# Altium integrated library Altium_WE-PD.intlib: 278 symbols (part 3 of 3)
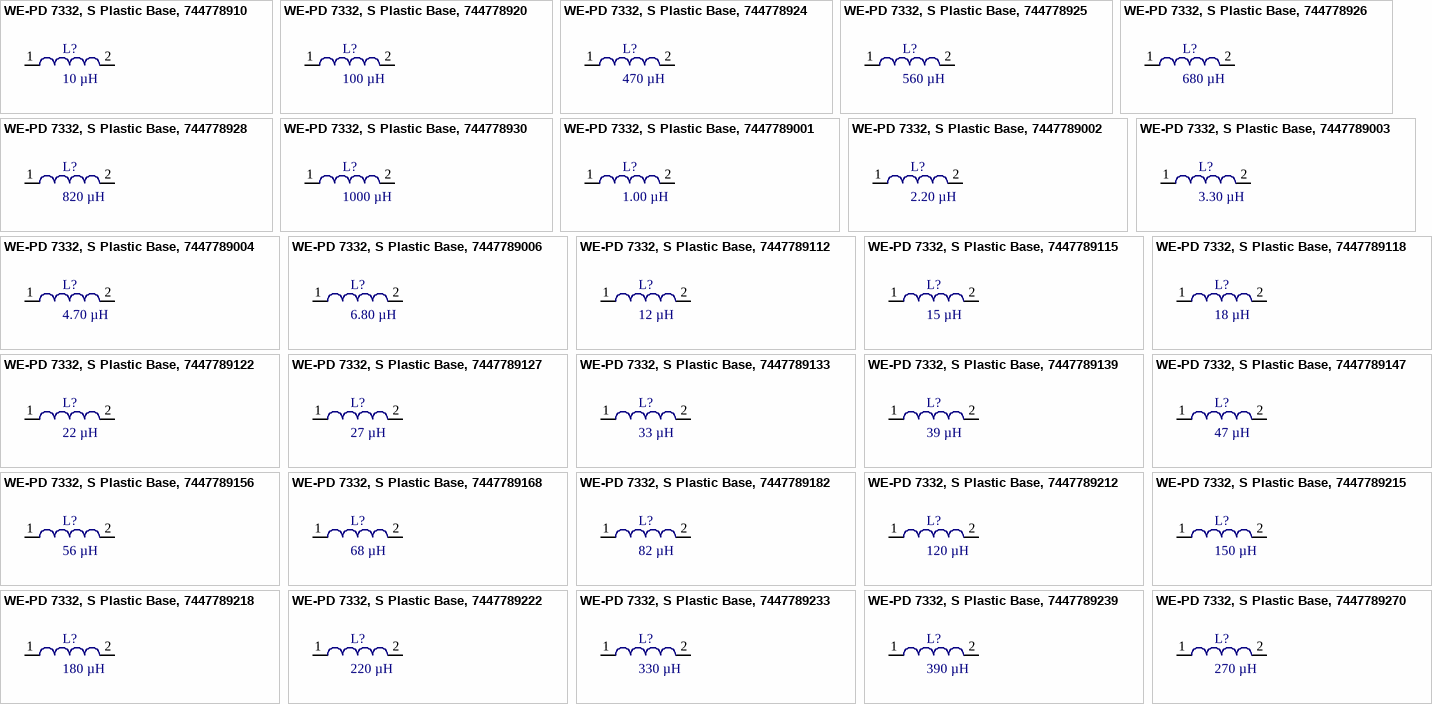
[diagram p13: symbols WE-PD 7332, S Plastic Base, 744778910 to WE-PD 7332, S Plastic Base, 7447789270]

## WE-PD 7332, S Plastic Base, 7447789270
designator L?, comment 270 µH  (mechanical)
SMD-Shielded Power Inductor WE-PD, L=270 µH; partNo: 7447789270; Manufacturer: Würth Elektronik eiSos GmbH; Inductance: 270 µH; ComponentLink1Description: Manufacturer; ComponentLink1URL: http://www.we-online.de; Created by: Christin Zierenner; Created Date: August 2009; ComponentLink2Description: Datasheet; ComponentLink2URL: http://www.we-online.de/katalog/media/pdf/7447789270.pdf
footprint WE-PD 7332 Plastic Base (SMD Inductor, 2-Leads, Body 7,3x7,3mm)
pins: 1, 2


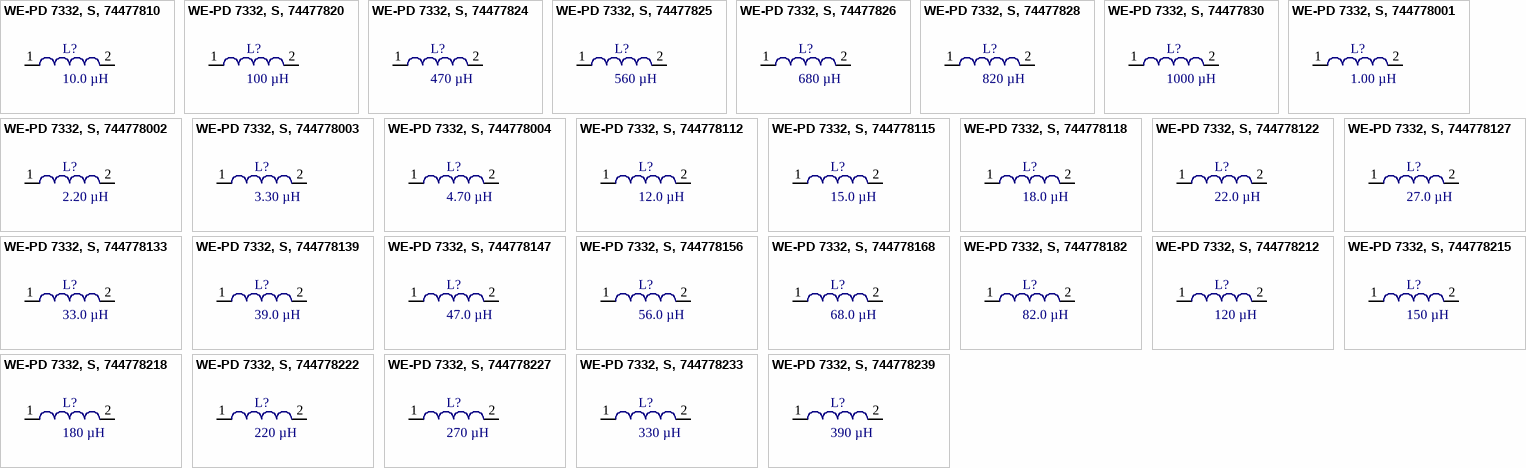
[diagram p9: symbols WE-PD 7332, S, 74477810 to WE-PD 7332, S, 744778239]

## WE-PD 7332, S, 74477810
designator L?, comment 10.0 µH
SMD-Shielded Power Inductor WE-PD, L=10.0 µH; partNo: 74477810; Manufacturer: Würth Elektronik eiSos GmbH; Inductance: 10.0 µH; ComponentLink1Description: Manufacturer; ComponentLink1URL: http://www.we-online.de; Created by: Christin Zierenner; Created Date: July 2009; ComponentLink2Description: Datasheet; ComponentLink2URL: http://www.we-online.de/katalog/media/pdf/74477810.pdf
footprint WE-PD 7332 (SMD Inductor, 2-Leads, Body 7,3x7,3mm)
pins: 1, 2

## WE-PD 7332, S, 74477820
designator L?, comment 100 µH
SMD-Shielded Power Inductor WE-PD, L=100 µH; partNo: 74477820; Manufacturer: Würth Elektronik eiSos GmbH; Inductance: 100 µH; ComponentLink1Description: Manufacturer; ComponentLink1URL: http://www.we-online.de; Created by: Christin Zierenner; Created Date: July 2009; ComponentLink2Description: Datasheet; ComponentLink2URL: http://www.we-online.de/katalog/media/pdf/74477820.pdf
footprint WE-PD 7332 (SMD Inductor, 2-Leads, Body 7,3x7,3mm)
pins: 1, 2

## WE-PD 7332, S, 74477824
designator L?, comment 470 µH
SMD-Shielded Power Inductor WE-PD, L=470 µH; partNo: 74477824; Manufacturer: Würth Elektronik eiSos GmbH; Inductance: 470 µH; ComponentLink1Description: Manufacturer; ComponentLink1URL: http://www.we-online.de; Created by: Christin Zierenner; Created Date: July 2009; ComponentLink2Description: Datasheet; ComponentLink2URL: http://www.we-online.de/katalog/media/pdf/74477824.pdf
footprint WE-PD 7332 (SMD Inductor, 2-Leads, Body 7,3x7,3mm)
pins: 1, 2

## WE-PD 7332, S, 74477825
designator L?, comment 560 µH
SMD-Shielded Power Inductor WE-PD, L=560 µH; partNo: 74477825; Manufacturer: Würth Elektronik eiSos GmbH; Inductance: 560 µH; ComponentLink1Description: Manufacturer; ComponentLink1URL: http://www.we-online.de; Created by: Christin Zierenner; Created Date: July 2009; ComponentLink2Description: Datasheet; ComponentLink2URL: http://www.we-online.de/katalog/media/pdf/74477825.pdf
footprint WE-PD 7332 (SMD Inductor, 2-Leads, Body 7,3x7,3mm)
pins: 1, 2

## WE-PD 7332, S, 74477826
designator L?, comment 680 µH
SMD-Shielded Power Inductor WE-PD, L=680 µH; partNo: 74477826; Manufacturer: Würth Elektronik eiSos GmbH; Inductance: 680 µH; ComponentLink1Description: Manufacturer; ComponentLink1URL: http://www.we-online.de; Created by: Christin Zierenner; Created Date: July 2009; ComponentLink2Description: Datasheet; ComponentLink2URL: http://www.we-online.de/katalog/media/pdf/74477826.pdf
footprint WE-PD 7332 (SMD Inductor, 2-Leads, Body 7,3x7,3mm)
pins: 1, 2

## WE-PD 7332, S, 74477828
designator L?, comment 820 µH
SMD-Shielded Power Inductor WE-PD, L=820 µH; partNo: 74477828; Manufacturer: Würth Elektronik eiSos GmbH; Inductance: 820 µH; ComponentLink1Description: Manufacturer; ComponentLink1URL: http://www.we-online.de; Created by: Christin Zierenner; Created Date: July 2009; ComponentLink2Description: Datasheet; ComponentLink2URL: http://www.we-online.de/katalog/media/pdf/74477828.pdf
footprint WE-PD 7332 (SMD Inductor, 2-Leads, Body 7,3x7,3mm)
pins: 1, 2

## WE-PD 7332, S, 74477830
designator L?, comment 1000 µH
SMD-Shielded Power Inductor WE-PD, L=1000 µH; partNo: 74477830; Manufacturer: Würth Elektronik eiSos GmbH; Inductance: 1000 µH; ComponentLink1Description: Manufacturer; ComponentLink1URL: http://www.we-online.de; Created by: Christin Zierenner; Created Date: July 2009; ComponentLink2Description: Datasheet; ComponentLink2URL: http://www.we-online.de/katalog/media/pdf/74477830.pdf
footprint WE-PD 7332 (SMD Inductor, 2-Leads, Body 7,3x7,3mm)
pins: 1, 2

## WE-PD 7332, S, 744778001
designator L?, comment 1.00 µH
SMD-Shielded Power Inductor WE-PD, L=1.00 µH; partNo: 744778001; Manufacturer: Würth Elektronik eiSos GmbH; Inductance: 1.00 µH; ComponentLink1Description: Manufacturer; ComponentLink1URL: http://www.we-online.de; Created by: Christin Zierenner; Created Date: July 2009; ComponentLink2Description: Datasheet; ComponentLink2URL: http://www.we-online.de/katalog/media/pdf/744778001.pdf
footprint WE-PD 7332 (SMD Inductor, 2-Leads, Body 7,3x7,3mm)
pins: 1, 2

## WE-PD 7332, S, 744778002
designator L?, comment 2.20 µH
SMD-Shielded Power Inductor WE-PD, L=2.20 µH; partNo: 744778002; Manufacturer: Würth Elektronik eiSos GmbH; Inductance: 2.20 µH; ComponentLink1Description: Manufacturer; ComponentLink1URL: http://www.we-online.de; Created by: Christin Zierenner; Created Date: July 2009; ComponentLink2Description: Datasheet; ComponentLink2URL: http://www.we-online.de/katalog/media/pdf/744778002pdf
footprint WE-PD 7332 (SMD Inductor, 2-Leads, Body 7,3x7,3mm)
pins: 1, 2

## WE-PD 7332, S, 744778003
designator L?, comment 3.30 µH
SMD-Shielded Power Inductor WE-PD, L=3.30 µH; partNo: 744778003; Manufacturer: Würth Elektronik eiSos GmbH; Inductance: 3.30 µH; ComponentLink1Description: Manufacturer; ComponentLink1URL: http://www.we-online.de; Created by: Christin Zierenner; Created Date: July 2009; ComponentLink2Description: Datasheet; ComponentLink2URL: http://www.we-online.de/katalog/media/pdf/744778003.pdf
footprint WE-PD 7332 (SMD Inductor, 2-Leads, Body 7,3x7,3mm)
pins: 1, 2

## WE-PD 7332, S, 744778004
designator L?, comment 4.70 µH
SMD-Shielded Power Inductor WE-PD, L=4.70 µH; partNo: 744778004; Manufacturer: Würth Elektronik eiSos GmbH; Inductance: 4.70 µH; ComponentLink1Description: Manufacturer; ComponentLink1URL: http://www.we-online.de; Created by: Christin Zierenner; Created Date: July 2009; ComponentLink2Description: Datasheet; ComponentLink2URL: http://www.we-online.de/katalog/media/pdf/744778004.pdf
footprint WE-PD 7332 (SMD Inductor, 2-Leads, Body 7,3x7,3mm)
pins: 1, 2

## WE-PD 7332, S, 744778112
designator L?, comment 12.0 µH
SMD-Shielded Power Inductor WE-PD, L=12.0 µH; partNo: 744778112; Manufacturer: Würth Elektronik eiSos GmbH; Inductance: 12.0 µH; ComponentLink1Description: Manufacturer; ComponentLink1URL: http://www.we-online.de; Created by: Christin Zierenner; Created Date: July 2009; ComponentLink2Description: Datasheet; ComponentLink2URL: http://www.we-online.de/katalog/media/pdf/744778112.pdf
footprint WE-PD 7332 (SMD Inductor, 2-Leads, Body 7,3x7,3mm)
pins: 1, 2

## WE-PD 7332, S, 744778115
designator L?, comment 15.0 µH
SMD-Shielded Power Inductor WE-PD, L=15.0 µH; partNo: 744778115; Manufacturer: Würth Elektronik eiSos GmbH; Inductance: 15.0 µH; ComponentLink1Description: Manufacturer; ComponentLink1URL: http://www.we-online.de; Created by: Christin Zierenner; Created Date: July 2009; ComponentLink2Description: Datasheet; ComponentLink2URL: http://www.we-online.de/katalog/media/pdf/744778115.pdf
footprint WE-PD 7332 (SMD Inductor, 2-Leads, Body 7,3x7,3mm)
pins: 1, 2

## WE-PD 7332, S, 744778118
designator L?, comment 18.0 µH
SMD-Shielded Power Inductor WE-PD, L=18.0 µH; partNo: 744778118; Manufacturer: Würth Elektronik eiSos GmbH; Inductance: 18.0 µH; ComponentLink1Description: Manufacturer; ComponentLink1URL: http://www.we-online.de; Created by: Christin Zierenner; Created Date: July 2009; ComponentLink2Description: Datasheet; ComponentLink2URL: http://www.we-online.de/katalog/media/pdf/744778118.pdf
footprint WE-PD 7332 (SMD Inductor, 2-Leads, Body 7,3x7,3mm)
pins: 1, 2

## WE-PD 7332, S, 744778122
designator L?, comment 22.0 µH
SMD-Shielded Power Inductor WE-PD, L=22.0 µH; partNo: 744778122; Manufacturer: Würth Elektronik eiSos GmbH; Inductance: 22.0 µH; ComponentLink1Description: Manufacturer; ComponentLink1URL: http://www.we-online.de; Created by: Christin Zierenner; Created Date: July 2009; ComponentLink2Description: Datasheet; ComponentLink2URL: http://www.we-online.de/katalog/media/pdf/744778122.pdf
footprint WE-PD 7332 (SMD Inductor, 2-Leads, Body 7,3x7,3mm)
pins: 1, 2

## WE-PD 7332, S, 744778127
designator L?, comment 27.0 µH
SMD-Shielded Power Inductor WE-PD, L=27.0 µH; partNo: 744778127; Manufacturer: Würth Elektronik eiSos GmbH; Inductance: 27.0 µH; ComponentLink1Description: Manufacturer; ComponentLink1URL: http://www.we-online.de; Created by: Christin Zierenner; Created Date: July 2009; ComponentLink2Description: Datasheet; ComponentLink2URL: http://www.we-online.de/katalog/media/pdf/744778127.pdf
footprint WE-PD 7332 (SMD Inductor, 2-Leads, Body 7,3x7,3mm)
pins: 1, 2

## WE-PD 7332, S, 744778133
designator L?, comment 33.0 µH
SMD-Shielded Power Inductor WE-PD, L=33.0 µH; partNo: 744778133; Manufacturer: Würth Elektronik eiSos GmbH; Inductance: 33.0 µH; ComponentLink1Description: Manufacturer; ComponentLink1URL: http://www.we-online.de; Created by: Christin Zierenner; Created Date: July 2009; ComponentLink2Description: Datasheet; ComponentLink2URL: http://www.we-online.de/katalog/media/pdf/744778133.pdf
footprint WE-PD 7332 (SMD Inductor, 2-Leads, Body 7,3x7,3mm)
pins: 1, 2

## WE-PD 7332, S, 744778139
designator L?, comment 39.0 µH
SMD-Shielded Power Inductor WE-PD, L=39.0 µH; partNo: 744778139; Manufacturer: Würth Elektronik eiSos GmbH; Inductance: 39.0 µH; ComponentLink1Description: Manufacturer; ComponentLink1URL: http://www.we-online.de; Created by: Christin Zierenner; Created Date: July 2009; ComponentLink2Description: Datasheet; ComponentLink2URL: http://www.we-online.de/katalog/media/pdf/744778139.pdf
footprint WE-PD 7332 (SMD Inductor, 2-Leads, Body 7,3x7,3mm)
pins: 1, 2

## WE-PD 7332, S, 744778147
designator L?, comment 47.0 µH
SMD-Shielded Power Inductor WE-PD, L=47.0 µH; partNo: 744778147; Manufacturer: Würth Elektronik eiSos GmbH; Inductance: 47.0 µH; ComponentLink1Description: Manufacturer; ComponentLink1URL: http://www.we-online.de; Created by: Christin Zierenner; Created Date: July 2009; ComponentLink2Description: Datasheet; ComponentLink2URL: http://www.we-online.de/katalog/media/pdf/744778147.pdf
footprint WE-PD 7332 (SMD Inductor, 2-Leads, Body 7,3x7,3mm)
pins: 1, 2

## WE-PD 7332, S, 744778156
designator L?, comment 56.0 µH
SMD-Shielded Power Inductor WE-PD, L=56.0 µH; partNo: 744778156; Manufacturer: Würth Elektronik eiSos GmbH; Inductance: 56.0 µH; ComponentLink1Description: Manufacturer; ComponentLink1URL: http://www.we-online.de; Created by: Christin Zierenner; Created Date: July 2009; ComponentLink2Description: Datasheet; ComponentLink2URL: http://www.we-online.de/katalog/media/pdf/744778156.pdf
footprint WE-PD 7332 (SMD Inductor, 2-Leads, Body 7,3x7,3mm)
pins: 1, 2

## WE-PD 7332, S, 744778168
designator L?, comment 68.0 µH
SMD-Shielded Power Inductor WE-PD, L=68.0 µH; partNo: 744778168; Manufacturer: Würth Elektronik eiSos GmbH; Inductance: 68.0 µH; ComponentLink1Description: Manufacturer; ComponentLink1URL: http://www.we-online.de; Created by: Christin Zierenner; Created Date: July 2009; ComponentLink2Description: Datasheet; ComponentLink2URL: http://www.we-online.de/katalog/media/pdf/744778168.pdf
footprint WE-PD 7332 (SMD Inductor, 2-Leads, Body 7,3x7,3mm)
pins: 1, 2

## WE-PD 7332, S, 744778182
designator L?, comment 82.0 µH
SMD-Shielded Power Inductor WE-PD, L=82.0 µH; partNo: 744778182; Manufacturer: Würth Elektronik eiSos GmbH; Inductance: 82.0 µH; ComponentLink1Description: Manufacturer; ComponentLink1URL: http://www.we-online.de; Created by: Christin Zierenner; Created Date: July 2009; ComponentLink2Description: Datasheet; ComponentLink2URL: http://www.we-online.de/katalog/media/pdf/744778182.pdf
footprint WE-PD 7332 (SMD Inductor, 2-Leads, Body 7,3x7,3mm)
pins: 1, 2

## WE-PD 7332, S, 744778212
designator L?, comment 120 µH
SMD-Shielded Power Inductor WE-PD, L=120 µH; partNo: 744778212; Manufacturer: Würth Elektronik eiSos GmbH; Inductance: 120 µH; ComponentLink1Description: Manufacturer; ComponentLink1URL: http://www.we-online.de; Created by: Christin Zierenner; Created Date: July 2009; ComponentLink2Description: Datasheet; ComponentLink2URL: http://www.we-online.de/katalog/media/pdf/744778212.pdf
footprint WE-PD 7332 (SMD Inductor, 2-Leads, Body 7,3x7,3mm)
pins: 1, 2

## WE-PD 7332, S, 744778215
designator L?, comment 150 µH
SMD-Shielded Power Inductor WE-PD, L=150 µH; partNo: 744778215; Manufacturer: Würth Elektronik eiSos GmbH; Inductance: 150 µH; ComponentLink1Description: Manufacturer; ComponentLink1URL: http://www.we-online.de; Created by: Christin Zierenner; Created Date: July 2009; ComponentLink2Description: Datasheet; ComponentLink2URL: http://www.we-online.de/katalog/media/pdf/744778215.pdf
footprint WE-PD 7332 (SMD Inductor, 2-Leads, Body 7,3x7,3mm)
pins: 1, 2

## WE-PD 7332, S, 744778218
designator L?, comment 180 µH
SMD-Shielded Power Inductor WE-PD, L=180 µH; partNo: 744778218; Manufacturer: Würth Elektronik eiSos GmbH; Inductance: 180 µH; ComponentLink1Description: Manufacturer; ComponentLink1URL: http://www.we-online.de; Created by: Christin Zierenner; Created Date: July 2009; ComponentLink2Description: Datasheet; ComponentLink2URL: http://www.we-online.de/katalog/media/pdf/744778218.pdf
footprint WE-PD 7332 (SMD Inductor, 2-Leads, Body 7,3x7,3mm)
pins: 1, 2

## WE-PD 7332, S, 744778222
designator L?, comment 220 µH
SMD-Shielded Power Inductor WE-PD, L=220 µH; partNo: 744778222; Manufacturer: Würth Elektronik eiSos GmbH; Inductance: 220 µH; ComponentLink1Description: Manufacturer; ComponentLink1URL: http://www.we-online.de; Created by: Christin Zierenner; Created Date: July 2009; ComponentLink2Description: Datasheet; ComponentLink2URL: http://www.we-online.de/katalog/media/pdf/744778222.pdf
footprint WE-PD 7332 (SMD Inductor, 2-Leads, Body 7,3x7,3mm)
pins: 1, 2

## WE-PD 7332, S, 744778227
designator L?, comment 270 µH
SMD-Shielded Power Inductor WE-PD, L=270 µH; partNo: 744778227; Manufacturer: Würth Elektronik eiSos GmbH; Inductance: 270 µH; ComponentLink1Description: Manufacturer; ComponentLink1URL: http://www.we-online.de; Created by: Christin Zierenner; Created Date: July 2009; ComponentLink2Description: Datasheet; ComponentLink2URL: http://www.we-online.de/katalog/media/pdf/744778227.pdf
footprint WE-PD 7332 (SMD Inductor, 2-Leads, Body 7,3x7,3mm)
pins: 1, 2

## WE-PD 7332, S, 744778233
designator L?, comment 330 µH
SMD-Shielded Power Inductor WE-PD, L=330 µH; partNo: 744778233; Manufacturer: Würth Elektronik eiSos GmbH; Inductance: 330 µH; ComponentLink1Description: Manufacturer; ComponentLink1URL: http://www.we-online.de; Created by: Christin Zierenner; Created Date: July 2009; ComponentLink2Description: Datasheet; ComponentLink2URL: http://www.we-online.de/katalog/media/pdf/744778233.pdf
footprint WE-PD 7332 (SMD Inductor, 2-Leads, Body 7,3x7,3mm)
pins: 1, 2

## WE-PD 7332, S, 744778239
designator L?, comment 390 µH
SMD-Shielded Power Inductor WE-PD, L=390 µH; partNo: 744778239; Manufacturer: Würth Elektronik eiSos GmbH; Inductance: 390 µH; ComponentLink1Description: Manufacturer; ComponentLink1URL: http://www.we-online.de; Created by: Christin Zierenner; Created Date: July 2009; ComponentLink2Description: Datasheet; ComponentLink2URL: http://www.we-online.de/katalog/media/pdf/744778239.pdf
footprint WE-PD 7332 (SMD Inductor, 2-Leads, Body 7,3x7,3mm)
pins: 1, 2


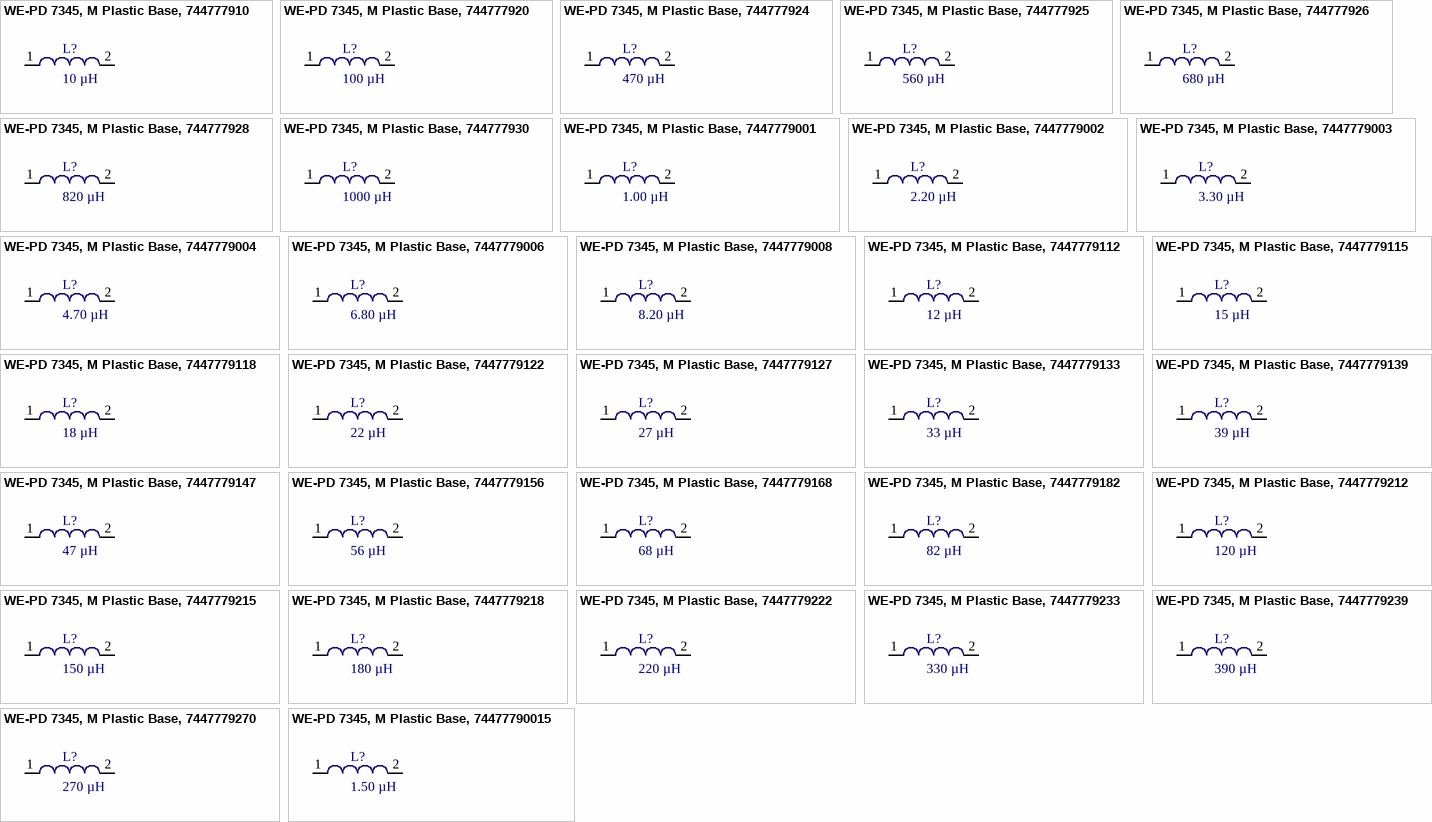
[diagram p10: symbols WE-PD 7345, M Plastic Base, 744777910 to WE-PD 7345, M Plastic Base, 74477790015]

## WE-PD 7345, M Plastic Base, 744777910
designator L?, comment 10 µH
SMD-Shielded Power Inductor WE-PD, L=10 µH; partNo: 744777910; Manufacturer: Würth Elektronik eiSos GmbH; Inductance: 10 µH; ComponentLink1Description: Manufacturer; ComponentLink1URL: http://www.we-online.de; Created by: Christin Zierenner; Created Date: August 2009; ComponentLink2Description: Datasheet; ComponentLink2URL: http://www.we-online.de/katalog/media/pdf/744777910.pdf
footprint WE-PD 7345 Plastic Base (SMD Inductor, 2-Leads, Body 7,3x7,3mm)
pins: 1, 2

## WE-PD 7345, M Plastic Base, 744777920
designator L?, comment 100 µH
SMD-Shielded Power Inductor WE-PD, L=100 µH; partNo: 744777920; Manufacturer: Würth Elektronik eiSos GmbH; Inductance: 100 µH; ComponentLink1Description: Manufacturer; ComponentLink1URL: http://www.we-online.de; Created by: Christin Zierenner; Created Date: August 2009; ComponentLink2Description: Datasheet; ComponentLink2URL: http://www.we-online.de/katalog/media/pdf/744777920.pdf
footprint WE-PD 7345 Plastic Base (SMD Inductor, 2-Leads, Body 7,3x7,3mm)
pins: 1, 2

## WE-PD 7345, M Plastic Base, 744777924
designator L?, comment 470 µH
SMD-Shielded Power Inductor WE-PD, L=470 µH; partNo: 744777924; Manufacturer: Würth Elektronik eiSos GmbH; Inductance: 470 µH; ComponentLink1Description: Manufacturer; ComponentLink1URL: http://www.we-online.de; Created by: Christin Zierenner; Created Date: August 2009; ComponentLink2Description: Datasheet; ComponentLink2URL: http://www.we-online.de/katalog/media/pdf/744777924.pdf
footprint WE-PD 7345 Plastic Base (SMD Inductor, 2-Leads, Body 7,3x7,3mm)
pins: 1, 2

## WE-PD 7345, M Plastic Base, 744777925
designator L?, comment 560 µH
SMD-Shielded Power Inductor WE-PD, L=560 µH; partNo: 744777925; Manufacturer: Würth Elektronik eiSos GmbH; Inductance: 560 µH; ComponentLink1Description: Manufacturer; ComponentLink1URL: http://www.we-online.de; Created by: Christin Zierenner; Created Date: August 2009; ComponentLink2Description: Datasheet; ComponentLink2URL: http://www.we-online.de/katalog/media/pdf/744777925.pdf
footprint WE-PD 7345 Plastic Base (SMD Inductor, 2-Leads, Body 7,3x7,3mm)
pins: 1, 2

## WE-PD 7345, M Plastic Base, 744777926
designator L?, comment 680 µH
SMD-Shielded Power Inductor WE-PD, L=680 µH; partNo: 744777926; Manufacturer: Würth Elektronik eiSos GmbH; Inductance: 680 µH; ComponentLink1Description: Manufacturer; ComponentLink1URL: http://www.we-online.de; Created by: Christin Zierenner; Created Date: August 2009; ComponentLink2Description: Datasheet; ComponentLink2URL: http://www.we-online.de/katalog/media/pdf/744777926.pdf
footprint WE-PD 7345 Plastic Base (SMD Inductor, 2-Leads, Body 7,3x7,3mm)
pins: 1, 2

## WE-PD 7345, M Plastic Base, 744777928
designator L?, comment 820 µH
SMD-Shielded Power Inductor WE-PD, L=820 µH; partNo: 744777928; Manufacturer: Würth Elektronik eiSos GmbH; Inductance: 820 µH; ComponentLink1Description: Manufacturer; ComponentLink1URL: http://www.we-online.de; Created by: Christin Zierenner; Created Date: August 2009; ComponentLink2Description: Datasheet; ComponentLink2URL: http://www.we-online.de/katalog/media/pdf/744777928.pdf
footprint WE-PD 7345 Plastic Base (SMD Inductor, 2-Leads, Body 7,3x7,3mm)
pins: 1, 2

## WE-PD 7345, M Plastic Base, 744777930
designator L?, comment 1000 µH
SMD-Shielded Power Inductor WE-PD, L=1000 µH; partNo: 744777930; Manufacturer: Würth Elektronik eiSos GmbH; Inductance: 1000 µH; ComponentLink1Description: Manufacturer; ComponentLink1URL: http://www.we-online.de; Created by: Christin Zierenner; Created Date: August 2009; ComponentLink2Description: Datasheet; ComponentLink2URL: http://www.we-online.de/katalog/media/pdf/744777930.pdf
footprint WE-PD 7345 Plastic Base (SMD Inductor, 2-Leads, Body 7,3x7,3mm)
pins: 1, 2

## WE-PD 7345, M Plastic Base, 7447779001
designator L?, comment 1.00 µH
SMD-Shielded Power Inductor WE-PD, L=1.00 µH; partNo: 7447779001; Manufacturer: Würth Elektronik eiSos GmbH; Inductance: 1.00 µH; ComponentLink1Description: Manufacturer; ComponentLink1URL: http://www.we-online.de; Created by: Christin Zierenner; Created Date: August 2009; ComponentLink2Description: Datasheet; ComponentLink2URL: http://www.we-online.de/katalog/media/pdf/7447779001.pdf
footprint WE-PD 7345 Plastic Base (SMD Inductor, 2-Leads, Body 7,3x7,3mm)
pins: 1, 2

## WE-PD 7345, M Plastic Base, 7447779002
designator L?, comment 2.20 µH
SMD-Shielded Power Inductor WE-PD, L=2.20 µH; partNo: 7447779002; Manufacturer: Würth Elektronik eiSos GmbH; Inductance: 2.20 µH; ComponentLink1Description: Manufacturer; ComponentLink1URL: http://www.we-online.de; Created by: Christin Zierenner; Created Date: August 2009; ComponentLink2Description: Datasheet; ComponentLink2URL: http://www.we-online.de/katalog/media/pdf/7447779002.pdf
footprint WE-PD 7345 Plastic Base (SMD Inductor, 2-Leads, Body 7,3x7,3mm)
pins: 1, 2

## WE-PD 7345, M Plastic Base, 7447779003
designator L?, comment 3.30 µH
SMD-Shielded Power Inductor WE-PD, L=3.30 µH; partNo: 7447779003; Manufacturer: Würth Elektronik eiSos GmbH; Inductance: 3.30 µH; ComponentLink1Description: Manufacturer; ComponentLink1URL: http://www.we-online.de; Created by: Christin Zierenner; Created Date: August 2009; ComponentLink2Description: Datasheet; ComponentLink2URL: http://www.we-online.de/katalog/media/pdf/7447779003.pdf
footprint WE-PD 7345 Plastic Base (SMD Inductor, 2-Leads, Body 7,3x7,3mm)
pins: 1, 2

## WE-PD 7345, M Plastic Base, 7447779004
designator L?, comment 4.70 µH
SMD-Shielded Power Inductor WE-PD, L=4.70 µH; partNo: 7447779004; Manufacturer: Würth Elektronik eiSos GmbH; Inductance: 4.70 µH; ComponentLink1Description: Manufacturer; ComponentLink1URL: http://www.we-online.de; Created by: Christin Zierenner; Created Date: August 2009; ComponentLink2Description: Datasheet; ComponentLink2URL: http://www.we-online.de/katalog/media/pdf/7447779004.pdf
footprint WE-PD 7345 Plastic Base (SMD Inductor, 2-Leads, Body 7,3x7,3mm)
pins: 1, 2

## WE-PD 7345, M Plastic Base, 7447779006
designator L?, comment 6.80 µH
SMD-Shielded Power Inductor WE-PD, L=6.80 µH; partNo: 7447779006; Manufacturer: Würth Elektronik eiSos GmbH; Inductance: 6.80 µH; ComponentLink1Description: Manufacturer; ComponentLink1URL: http://www.we-online.de; Created by: Christin Zierenner; Created Date: August 2009; ComponentLink2Description: Datasheet; ComponentLink2URL: http://www.we-online.de/katalog/media/pdf/7447779006.pdf
footprint WE-PD 7345 Plastic Base (SMD Inductor, 2-Leads, Body 7,3x7,3mm)
pins: 1, 2

## WE-PD 7345, M Plastic Base, 7447779008
designator L?, comment 8.20 µH
SMD-Shielded Power Inductor WE-PD, L=8.20 µH; partNo: 7447779008; Manufacturer: Würth Elektronik eiSos GmbH; Inductance: 8.20 µH; ComponentLink1Description: Manufacturer; ComponentLink1URL: http://www.we-online.de; Created by: Christin Zierenner; Created Date: August 2009; ComponentLink2Description: Datasheet; ComponentLink2URL: http://www.we-online.de/katalog/media/pdf/7447779008.pdf
footprint WE-PD 7345 Plastic Base (SMD Inductor, 2-Leads, Body 7,3x7,3mm)
pins: 1, 2

## WE-PD 7345, M Plastic Base, 7447779112
designator L?, comment 12 µH
SMD-Shielded Power Inductor WE-PD, L=12 µH; partNo: 7447779112; Manufacturer: Würth Elektronik eiSos GmbH; Inductance: 12 µH; ComponentLink1Description: Manufacturer; ComponentLink1URL: http://www.we-online.de; Created by: Christin Zierenner; Created Date: August 2009; ComponentLink2Description: Datasheet; ComponentLink2URL: http://www.we-online.de/katalog/media/pdf/7447779112.pdf
footprint WE-PD 7345 Plastic Base (SMD Inductor, 2-Leads, Body 7,3x7,3mm)
pins: 1, 2

## WE-PD 7345, M Plastic Base, 7447779115
designator L?, comment 15 µH
SMD-Shielded Power Inductor WE-PD, L=15 µH; partNo: 7447779115; Manufacturer: Würth Elektronik eiSos GmbH; Inductance: 15 µH; ComponentLink1Description: Manufacturer; ComponentLink1URL: http://www.we-online.de; Created by: Christin Zierenner; Created Date: August 2009; ComponentLink2Description: Datasheet; ComponentLink2URL: http://www.we-online.de/katalog/media/pdf/7447779115.pdf
footprint WE-PD 7345 Plastic Base (SMD Inductor, 2-Leads, Body 7,3x7,3mm)
pins: 1, 2

## WE-PD 7345, M Plastic Base, 7447779118
designator L?, comment 18 µH
SMD-Shielded Power Inductor WE-PD, L=18 µH; partNo: 7447779118; Manufacturer: Würth Elektronik eiSos GmbH; Inductance: 18 µH; ComponentLink1Description: Manufacturer; ComponentLink1URL: http://www.we-online.de; Created by: Christin Zierenner; Created Date: August 2009; ComponentLink2Description: Datasheet; ComponentLink2URL: http://www.we-online.de/katalog/media/pdf/7447779118.pdf
footprint WE-PD 7345 Plastic Base (SMD Inductor, 2-Leads, Body 7,3x7,3mm)
pins: 1, 2

## WE-PD 7345, M Plastic Base, 7447779122
designator L?, comment 22 µH
SMD-Shielded Power Inductor WE-PD, L=22 µH; partNo: 7447779122; Manufacturer: Würth Elektronik eiSos GmbH; Inductance: 22 µH; ComponentLink1Description: Manufacturer; ComponentLink1URL: http://www.we-online.de; Created by: Christin Zierenner; Created Date: August 2009; ComponentLink2Description: Datasheet; ComponentLink2URL: http://www.we-online.de/katalog/media/pdf/7447779122.pdf
footprint WE-PD 7345 Plastic Base (SMD Inductor, 2-Leads, Body 7,3x7,3mm)
pins: 1, 2

## WE-PD 7345, M Plastic Base, 7447779127
designator L?, comment 27 µH
SMD-Shielded Power Inductor WE-PD, L=27 µH; partNo: 7447779127; Manufacturer: Würth Elektronik eiSos GmbH; Inductance: 27 µH; ComponentLink1Description: Manufacturer; ComponentLink1URL: http://www.we-online.de; Created by: Christin Zierenner; Created Date: August 2009; ComponentLink2Description: Datasheet; ComponentLink2URL: http://www.we-online.de/katalog/media/pdf/7447779127.pdf
footprint WE-PD 7345 Plastic Base (SMD Inductor, 2-Leads, Body 7,3x7,3mm)
pins: 1, 2

## WE-PD 7345, M Plastic Base, 7447779133
designator L?, comment 33 µH
SMD-Shielded Power Inductor WE-PD, L=33 µH; partNo: 7447779133; Manufacturer: Würth Elektronik eiSos GmbH; Inductance: 33 µH; ComponentLink1Description: Manufacturer; ComponentLink1URL: http://www.we-online.de; Created by: Christin Zierenner; Created Date: August 2009; ComponentLink2Description: Datasheet; ComponentLink2URL: http://www.we-online.de/katalog/media/pdf/7447779133.pdf
footprint WE-PD 7345 Plastic Base (SMD Inductor, 2-Leads, Body 7,3x7,3mm)
pins: 1, 2

## WE-PD 7345, M Plastic Base, 7447779139
designator L?, comment 39 µH
SMD-Shielded Power Inductor WE-PD, L=39 µH; partNo: 7447779139; Manufacturer: Würth Elektronik eiSos GmbH; Inductance: 39 µH; ComponentLink1Description: Manufacturer; ComponentLink1URL: http://www.we-online.de; Created by: Christin Zierenner; Created Date: August 2009; ComponentLink2Description: Datasheet; ComponentLink2URL: http://www.we-online.de/katalog/media/pdf/7447779139.pdf
footprint WE-PD 7345 Plastic Base (SMD Inductor, 2-Leads, Body 7,3x7,3mm)
pins: 1, 2

## WE-PD 7345, M Plastic Base, 7447779147
designator L?, comment 47 µH
SMD-Shielded Power Inductor WE-PD, L=47 µH; partNo: 7447779147; Manufacturer: Würth Elektronik eiSos GmbH; Inductance: 47 µH; ComponentLink1Description: Manufacturer; ComponentLink1URL: http://www.we-online.de; Created by: Christin Zierenner; Created Date: August 2009; ComponentLink2Description: Datasheet; ComponentLink2URL: http://www.we-online.de/katalog/media/pdf/7447779147.pdf
footprint WE-PD 7345 Plastic Base (SMD Inductor, 2-Leads, Body 7,3x7,3mm)
pins: 1, 2

## WE-PD 7345, M Plastic Base, 7447779156
designator L?, comment 56 µH
SMD-Shielded Power Inductor WE-PD, L=56 µH; partNo: 7447779156; Manufacturer: Würth Elektronik eiSos GmbH; Inductance: 56 µH; ComponentLink1Description: Manufacturer; ComponentLink1URL: http://www.we-online.de; Created by: Christin Zierenner; Created Date: August 2009; ComponentLink2Description: Datasheet; ComponentLink2URL: http://www.we-online.de/katalog/media/pdf/7447779156.pdf
footprint WE-PD 7345 Plastic Base (SMD Inductor, 2-Leads, Body 7,3x7,3mm)
pins: 1, 2

## WE-PD 7345, M Plastic Base, 7447779168
designator L?, comment 68 µH
SMD-Shielded Power Inductor WE-PD, L=68 µH; partNo: 7447779168; Manufacturer: Würth Elektronik eiSos GmbH; Inductance: 68 µH; ComponentLink1Description: Manufacturer; ComponentLink1URL: http://www.we-online.de; Created by: Christin Zierenner; Created Date: August 2009; ComponentLink2Description: Datasheet; ComponentLink2URL: http://www.we-online.de/katalog/media/pdf/7447779168.pdf
footprint WE-PD 7345 Plastic Base (SMD Inductor, 2-Leads, Body 7,3x7,3mm)
pins: 1, 2

## WE-PD 7345, M Plastic Base, 7447779182
designator L?, comment 82 µH
SMD-Shielded Power Inductor WE-PD, L=82 µH; partNo: 7447779182; Manufacturer: Würth Elektronik eiSos GmbH; Inductance: 82 µH; ComponentLink1Description: Manufacturer; ComponentLink1URL: http://www.we-online.de; Created by: Christin Zierenner; Created Date: August 2009; ComponentLink2Description: Datasheet; ComponentLink2URL: http://www.we-online.de/katalog/media/pdf/7447779182.pdf
footprint WE-PD 7345 Plastic Base (SMD Inductor, 2-Leads, Body 7,3x7,3mm)
pins: 1, 2

## WE-PD 7345, M Plastic Base, 7447779212
designator L?, comment 120 µH
SMD-Shielded Power Inductor WE-PD, L=120 µH; partNo: 7447779212; Manufacturer: Würth Elektronik eiSos GmbH; Inductance: 120 µH; ComponentLink1Description: Manufacturer; ComponentLink1URL: http://www.we-online.de; Created by: Christin Zierenner; Created Date: August 2009; ComponentLink2Description: Datasheet; ComponentLink2URL: http://www.we-online.de/katalog/media/pdf/7447779212.pdf
footprint WE-PD 7345 Plastic Base (SMD Inductor, 2-Leads, Body 7,3x7,3mm)
pins: 1, 2

## WE-PD 7345, M Plastic Base, 7447779215
designator L?, comment 150 µH
SMD-Shielded Power Inductor WE-PD, L=150 µH; partNo: 7447779215; Manufacturer: Würth Elektronik eiSos GmbH; Inductance: 150 µH; ComponentLink1Description: Manufacturer; ComponentLink1URL: http://www.we-online.de; Created by: Christin Zierenner; Created Date: August 2009; ComponentLink2Description: Datasheet; ComponentLink2URL: http://www.we-online.de/katalog/media/pdf/7447779215.pdf
footprint WE-PD 7345 Plastic Base (SMD Inductor, 2-Leads, Body 7,3x7,3mm)
pins: 1, 2

## WE-PD 7345, M Plastic Base, 7447779218
designator L?, comment 180 µH
SMD-Shielded Power Inductor WE-PD, L=180 µH; partNo: 7447779218; Manufacturer: Würth Elektronik eiSos GmbH; Inductance: 180 µH; ComponentLink1Description: Manufacturer; ComponentLink1URL: http://www.we-online.de; Created by: Christin Zierenner; Created Date: August 2009; ComponentLink2Description: Datasheet; ComponentLink2URL: http://www.we-online.de/katalog/media/pdf/7447779218.pdf
footprint WE-PD 7345 Plastic Base (SMD Inductor, 2-Leads, Body 7,3x7,3mm)
pins: 1, 2

## WE-PD 7345, M Plastic Base, 7447779222
designator L?, comment 220 µH
SMD-Shielded Power Inductor WE-PD, L=220 µH; partNo: 7447779222; Manufacturer: Würth Elektronik eiSos GmbH; Inductance: 220 µH; ComponentLink1Description: Manufacturer; ComponentLink1URL: http://www.we-online.de; Created by: Christin Zierenner; Created Date: August 2009; ComponentLink2Description: Datasheet; ComponentLink2URL: http://www.we-online.de/katalog/media/pdf/7447779222.pdf
footprint WE-PD 7345 Plastic Base (SMD Inductor, 2-Leads, Body 7,3x7,3mm)
pins: 1, 2

## WE-PD 7345, M Plastic Base, 7447779233
designator L?, comment 330 µH
SMD-Shielded Power Inductor WE-PD, L=330 µH; partNo: 7447779233; Manufacturer: Würth Elektronik eiSos GmbH; Inductance: 330 µH; ComponentLink1Description: Manufacturer; ComponentLink1URL: http://www.we-online.de; Created by: Christin Zierenner; Created Date: August 2009; ComponentLink2Description: Datasheet; ComponentLink2URL: http://www.we-online.de/katalog/media/pdf/7447779233.pdf
footprint WE-PD 7345 Plastic Base (SMD Inductor, 2-Leads, Body 7,3x7,3mm)
pins: 1, 2

## WE-PD 7345, M Plastic Base, 7447779239
designator L?, comment 390 µH
SMD-Shielded Power Inductor WE-PD, L=390 µH; partNo: 7447779239; Manufacturer: Würth Elektronik eiSos GmbH; Inductance: 390 µH; ComponentLink1Description: Manufacturer; ComponentLink1URL: http://www.we-online.de; Created by: Christin Zierenner; Created Date: August 2009; ComponentLink2Description: Datasheet; ComponentLink2URL: http://www.we-online.de/katalog/media/pdf/7447779239.pdf
footprint WE-PD 7345 Plastic Base (SMD Inductor, 2-Leads, Body 7,3x7,3mm)
pins: 1, 2

## WE-PD 7345, M Plastic Base, 7447779270
designator L?, comment 270 µH
SMD-Shielded Power Inductor WE-PD, L=270 µH; partNo: 7447779270; Manufacturer: Würth Elektronik eiSos GmbH; Inductance: 270 µH; ComponentLink1Description: Manufacturer; ComponentLink1URL: http://www.we-online.de; Created by: Christin Zierenner; Created Date: August 2009; ComponentLink2Description: Datasheet; ComponentLink2URL: http://www.we-online.de/katalog/media/pdf/7447779270.pdf
footprint WE-PD 7345 Plastic Base (SMD Inductor, 2-Leads, Body 7,3x7,3mm)
pins: 1, 2

## WE-PD 7345, M Plastic Base, 74477790015
designator L?, comment 1.50 µH
SMD-Shielded Power Inductor WE-PD, L=1.50 µH; partNo: 74477790015; Manufacturer: Würth Elektronik eiSos GmbH; Inductance: 1.50 µH; ComponentLink1Description: Manufacturer; ComponentLink1URL: http://www.we-online.de; Created by: Christin Zierenner; Created Date: August 2009; ComponentLink2Description: Datasheet; ComponentLink2URL: http://www.we-online.de/katalog/media/pdf/74477790015.pdf
footprint WE-PD 7345 Plastic Base (SMD Inductor, 2-Leads, Body 7,3x7,3mm)
pins: 1, 2


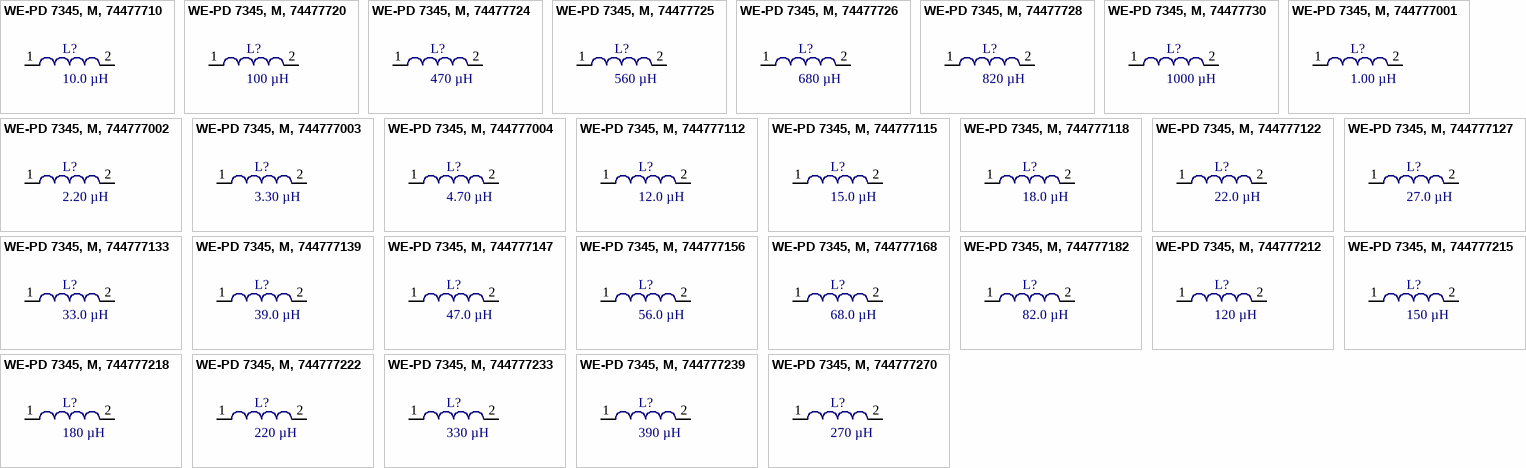
[diagram p11: symbols WE-PD 7345, M, 74477710 to WE-PD 7345, M, 744777270]

## WE-PD 7345, M, 74477710
designator L?, comment 10.0 µH
SMD-Shielded Power Inductor WE-PD, L=10.0 µH; partNo: 74477710; Manufacturer: Würth Elektronik eiSos GmbH; Inductance: 10.0 µH; ComponentLink1Description: Manufacturer; ComponentLink1URL: http://www.we-online.de; Created by: Christin Zierenner; Created Date: July 2009; ComponentLink2Description: Datasheet; ComponentLink2URL: http://www.we-online.de/katalog/media/pdf/74477710.pdf
footprint WE-PD 7345 (SMD Inductor, 2-Leads, Body 7,3x7,3mm)
pins: 1, 2

## WE-PD 7345, M, 74477720
designator L?, comment 100 µH
SMD-Shielded Power Inductor WE-PD, L=100 µH; partNo: 74477720; Manufacturer: Würth Elektronik eiSos GmbH; Inductance: 100 µH; ComponentLink1Description: Manufacturer; ComponentLink1URL: http://www.we-online.de; Created by: Christin Zierenner; Created Date: July 2009; ComponentLink2Description: Datasheet; ComponentLink2URL: http://www.we-online.de/katalog/media/pdf/74477720.pdf
footprint WE-PD 7345 (SMD Inductor, 2-Leads, Body 7,3x7,3mm)
pins: 1, 2

## WE-PD 7345, M, 74477724
designator L?, comment 470 µH
SMD-Shielded Power Inductor WE-PD, L=470 µH; partNo: 74477724; Manufacturer: Würth Elektronik eiSos GmbH; Inductance: 470 µH; ComponentLink1Description: Manufacturer; ComponentLink1URL: http://www.we-online.de; Created by: Christin Zierenner; Created Date: July 2009; ComponentLink2Description: Datasheet; ComponentLink2URL: http://www.we-online.de/katalog/media/pdf/74477724.pdf
footprint WE-PD 7345 (SMD Inductor, 2-Leads, Body 7,3x7,3mm)
pins: 1, 2

## WE-PD 7345, M, 74477725
designator L?, comment 560 µH
SMD-Shielded Power Inductor WE-PD, L=560 µH; partNo: 74477725; Manufacturer: Würth Elektronik eiSos GmbH; Inductance: 560 µH; ComponentLink1Description: Manufacturer; ComponentLink1URL: http://www.we-online.de; Created by: Christin Zierenner; Created Date: July 2009; ComponentLink2Description: Datasheet; ComponentLink2URL: http://www.we-online.de/katalog/media/pdf/74477725.pdf
footprint WE-PD 7345 (SMD Inductor, 2-Leads, Body 7,3x7,3mm)
pins: 1, 2

## WE-PD 7345, M, 74477726
designator L?, comment 680 µH
SMD-Shielded Power Inductor WE-PD, L=680 µH; partNo: 74477726; Manufacturer: Würth Elektronik eiSos GmbH; Inductance: 680 µH; ComponentLink1Description: Manufacturer; ComponentLink1URL: http://www.we-online.de; Created by: Christin Zierenner; Created Date: July 2009; ComponentLink2Description: Datasheet; ComponentLink2URL: http://www.we-online.de/katalog/media/pdf/74477726.pdf
footprint WE-PD 7345 (SMD Inductor, 2-Leads, Body 7,3x7,3mm)
pins: 1, 2

## WE-PD 7345, M, 74477728
designator L?, comment 820 µH
SMD-Shielded Power Inductor WE-PD, L=820 µH; partNo: 74477728; Manufacturer: Würth Elektronik eiSos GmbH; Inductance: 820 µH; ComponentLink1Description: Manufacturer; ComponentLink1URL: http://www.we-online.de; Created by: Christin Zierenner; Created Date: July 2009; ComponentLink2Description: Datasheet; ComponentLink2URL: http://www.we-online.de/katalog/media/pdf/74477728.pdf
footprint WE-PD 7345 (SMD Inductor, 2-Leads, Body 7,3x7,3mm)
pins: 1, 2

## WE-PD 7345, M, 74477730
designator L?, comment 1000 µH
SMD-Shielded Power Inductor WE-PD, L=1000 µH; partNo: 74477730; Manufacturer: Würth Elektronik eiSos GmbH; Inductance: 1000 µH; ComponentLink1Description: Manufacturer; ComponentLink1URL: http://www.we-online.de; Created by: Christin Zierenner; Created Date: July 2009; ComponentLink2Description: Datasheet; ComponentLink2URL: http://www.we-online.de/katalog/media/pdf/74477730.pdf
footprint WE-PD 7345 (SMD Inductor, 2-Leads, Body 7,3x7,3mm)
pins: 1, 2

## WE-PD 7345, M, 744777001
designator L?, comment 1.00 µH
SMD-Shielded Power Inductor WE-PD, L=1.00 µH; partNo: 744777001; Manufacturer: Würth Elektronik eiSos GmbH; Inductance: 1.00 µH; ComponentLink1Description: Manufacturer; ComponentLink1URL: http://www.we-online.de; Created by: Christin Zierenner; Created Date: July 2009; ComponentLink2Description: Datasheet; ComponentLink2URL: http://www.we-online.de/katalog/media/pdf/744777001.pdf
footprint WE-PD 7345 (SMD Inductor, 2-Leads, Body 7,3x7,3mm)
pins: 1, 2

## WE-PD 7345, M, 744777002
designator L?, comment 2.20 µH
SMD-Shielded Power Inductor WE-PD, L=2.20 µH; partNo: 744777002; Manufacturer: Würth Elektronik eiSos GmbH; Inductance: 2.20 µH; ComponentLink1Description: Manufacturer; ComponentLink1URL: http://www.we-online.de; Created by: Christin Zierenner; Created Date: July 2009; ComponentLink2Description: Datasheet; ComponentLink2URL: http://www.we-online.de/katalog/media/pdf/744777002.pdf
footprint WE-PD 7345 (SMD Inductor, 2-Leads, Body 7,3x7,3mm)
pins: 1, 2

## WE-PD 7345, M, 744777003
designator L?, comment 3.30 µH
SMD-Shielded Power Inductor WE-PD, L=3.30 µH; partNo: 744777003; Manufacturer: Würth Elektronik eiSos GmbH; Inductance: 3.30 µH; ComponentLink1Description: Manufacturer; ComponentLink1URL: http://www.we-online.de; Created by: Christin Zierenner; Created Date: July 2009; ComponentLink2Description: Datasheet; ComponentLink2URL: http://www.we-online.de/katalog/media/pdf/744777003.pdf
footprint WE-PD 7345 (SMD Inductor, 2-Leads, Body 7,3x7,3mm)
pins: 1, 2

## WE-PD 7345, M, 744777004
designator L?, comment 4.70 µH
SMD-Shielded Power Inductor WE-PD, L=4.70 µH; partNo: 744777004; Manufacturer: Würth Elektronik eiSos GmbH; Inductance: 4.70 µH; ComponentLink1Description: Manufacturer; ComponentLink1URL: http://www.we-online.de; Created by: Christin Zierenner; Created Date: July 2009; ComponentLink2Description: Datasheet; ComponentLink2URL: http://www.we-online.de/katalog/media/pdf/744777004.pdf
footprint WE-PD 7345 (SMD Inductor, 2-Leads, Body 7,3x7,3mm)
pins: 1, 2

## WE-PD 7345, M, 744777112
designator L?, comment 12.0 µH
SMD-Shielded Power Inductor WE-PD, L=12.0 µH; partNo: 744777112; Manufacturer: Würth Elektronik eiSos GmbH; Inductance: 12.0 µH; ComponentLink1Description: Manufacturer; ComponentLink1URL: http://www.we-online.de; Created by: Christin Zierenner; Created Date: July 2009; ComponentLink2Description: Datasheet; ComponentLink2URL: http://www.we-online.de/katalog/media/pdf/744777112.pdf
footprint WE-PD 7345 (SMD Inductor, 2-Leads, Body 7,3x7,3mm)
pins: 1, 2

## WE-PD 7345, M, 744777115
designator L?, comment 15.0 µH
SMD-Shielded Power Inductor WE-PD, L=15.0 µH; partNo: 744777115; Manufacturer: Würth Elektronik eiSos GmbH; Inductance: 15.0 µH; ComponentLink1Description: Manufacturer; ComponentLink1URL: http://www.we-online.de; Created by: Christin Zierenner; Created Date: July 2009; ComponentLink2Description: Datasheet; ComponentLink2URL: http://www.we-online.de/katalog/media/pdf/744777115.pdf
footprint WE-PD 7345 (SMD Inductor, 2-Leads, Body 7,3x7,3mm)
pins: 1, 2

## WE-PD 7345, M, 744777118
designator L?, comment 18.0 µH
SMD-Shielded Power Inductor WE-PD, L=18.0 µH; partNo: 744777118; Manufacturer: Würth Elektronik eiSos GmbH; Inductance: 18.0 µH; ComponentLink1Description: Manufacturer; ComponentLink1URL: http://www.we-online.de; Created by: Christin Zierenner; Created Date: July 2009; ComponentLink2Description: Datasheet; ComponentLink2URL: http://www.we-online.de/katalog/media/pdf/744777118.pdf
footprint WE-PD 7345 (SMD Inductor, 2-Leads, Body 7,3x7,3mm)
pins: 1, 2

## WE-PD 7345, M, 744777122
designator L?, comment 22.0 µH
SMD-Shielded Power Inductor WE-PD, L=22.0 µH; partNo: 744777122; Manufacturer: Würth Elektronik eiSos GmbH; Inductance: 22.0 µH; ComponentLink1Description: Manufacturer; ComponentLink1URL: http://www.we-online.de; Created by: Christin Zierenner; Created Date: July 2009; ComponentLink2Description: Datasheet; ComponentLink2URL: http://www.we-online.de/katalog/media/pdf/744777122.pdf
footprint WE-PD 7345 (SMD Inductor, 2-Leads, Body 7,3x7,3mm)
pins: 1, 2

## WE-PD 7345, M, 744777127
designator L?, comment 27.0 µH
SMD-Shielded Power Inductor WE-PD, L=27.0 µH; partNo: 744777127; Manufacturer: Würth Elektronik eiSos GmbH; Inductance: 27.0 µH; ComponentLink1Description: Manufacturer; ComponentLink1URL: http://www.we-online.de; Created by: Christin Zierenner; Created Date: July 2009; ComponentLink2Description: Datasheet; ComponentLink2URL: http://www.we-online.de/katalog/media/pdf/744777127.pdf
footprint WE-PD 7345 (SMD Inductor, 2-Leads, Body 7,3x7,3mm)
pins: 1, 2

## WE-PD 7345, M, 744777133
designator L?, comment 33.0 µH
SMD-Shielded Power Inductor WE-PD, L=33.0 µH; partNo: 744777133; Manufacturer: Würth Elektronik eiSos GmbH; Inductance: 33.0 µH; ComponentLink1Description: Manufacturer; ComponentLink1URL: http://www.we-online.de; Created by: Christin Zierenner; Created Date: July 2009; ComponentLink2Description: Datasheet; ComponentLink2URL: http://www.we-online.de/katalog/media/pdf/744777133.pdf
footprint WE-PD 7345 (SMD Inductor, 2-Leads, Body 7,3x7,3mm)
pins: 1, 2

## WE-PD 7345, M, 744777139
designator L?, comment 39.0 µH
SMD-Shielded Power Inductor WE-PD, L=39.0 µH; partNo: 744777139; Manufacturer: Würth Elektronik eiSos GmbH; Inductance: 39.0 µH; ComponentLink1Description: Manufacturer; ComponentLink1URL: http://www.we-online.de; Created by: Christin Zierenner; Created Date: July 2009; ComponentLink2Description: Datasheet; ComponentLink2URL: http://www.we-online.de/katalog/media/pdf/744777139.pdf
footprint WE-PD 7345 (SMD Inductor, 2-Leads, Body 7,3x7,3mm)
pins: 1, 2

## WE-PD 7345, M, 744777147
designator L?, comment 47.0 µH
SMD-Shielded Power Inductor WE-PD, L=47.0 µH; partNo: 744777147; Manufacturer: Würth Elektronik eiSos GmbH; Inductance: 47.0 µH; ComponentLink1Description: Manufacturer; ComponentLink1URL: http://www.we-online.de; Created by: Christin Zierenner; Created Date: July 2009; ComponentLink2Description: Datasheet; ComponentLink2URL: http://www.we-online.de/katalog/media/pdf/744777147.pdf
footprint WE-PD 7345 (SMD Inductor, 2-Leads, Body 7,3x7,3mm)
pins: 1, 2

## WE-PD 7345, M, 744777156
designator L?, comment 56.0 µH
SMD-Shielded Power Inductor WE-PD, L=56.0 µH; partNo: 744777156; Manufacturer: Würth Elektronik eiSos GmbH; Inductance: 56.0 µH; ComponentLink1Description: Manufacturer; ComponentLink1URL: http://www.we-online.de; Created by: Christin Zierenner; Created Date: July 2009; ComponentLink2Description: Datasheet; ComponentLink2URL: http://www.we-online.de/katalog/media/pdf/744777156.pdf
footprint WE-PD 7345 (SMD Inductor, 2-Leads, Body 7,3x7,3mm)
pins: 1, 2

## WE-PD 7345, M, 744777168
designator L?, comment 68.0 µH
SMD-Shielded Power Inductor WE-PD, L=68.0 µH; partNo: 744777168; Manufacturer: Würth Elektronik eiSos GmbH; Inductance: 68.0 µH; ComponentLink1Description: Manufacturer; ComponentLink1URL: http://www.we-online.de; Created by: Christin Zierenner; Created Date: July 2009; ComponentLink2Description: Datasheet; ComponentLink2URL: http://www.we-online.de/katalog/media/pdf/744777168.pdf
footprint WE-PD 7345 (SMD Inductor, 2-Leads, Body 7,3x7,3mm)
pins: 1, 2

## WE-PD 7345, M, 744777182
designator L?, comment 82.0 µH
SMD-Shielded Power Inductor WE-PD, L=82.0 µH; partNo: 744777182; Manufacturer: Würth Elektronik eiSos GmbH; Inductance: 82.0 µH; ComponentLink1Description: Manufacturer; ComponentLink1URL: http://www.we-online.de; Created by: Christin Zierenner; Created Date: July 2009; ComponentLink2Description: Datasheet; ComponentLink2URL: http://www.we-online.de/katalog/media/pdf/744777182.pdf
footprint WE-PD 7345 (SMD Inductor, 2-Leads, Body 7,3x7,3mm)
pins: 1, 2

## WE-PD 7345, M, 744777212
designator L?, comment 120 µH
SMD-Shielded Power Inductor WE-PD, L=120 µH; partNo: 744777212; Manufacturer: Würth Elektronik eiSos GmbH; Inductance: 120 µH; ComponentLink1Description: Manufacturer; ComponentLink1URL: http://www.we-online.de; Created by: Christin Zierenner; Created Date: July 2009; ComponentLink2Description: Datasheet; ComponentLink2URL: http://www.we-online.de/katalog/media/pdf/744777212.pdf
footprint WE-PD 7345 (SMD Inductor, 2-Leads, Body 7,3x7,3mm)
pins: 1, 2

## WE-PD 7345, M, 744777215
designator L?, comment 150 µH
SMD-Shielded Power Inductor WE-PD, L=150 µH; partNo: 744777215; Manufacturer: Würth Elektronik eiSos GmbH; Inductance: 150 µH; ComponentLink1Description: Manufacturer; ComponentLink1URL: http://www.we-online.de; Created by: Christin Zierenner; Created Date: July 2009; ComponentLink2Description: Datasheet; ComponentLink2URL: http://www.we-online.de/katalog/media/pdf/744777215.pdf
footprint WE-PD 7345 (SMD Inductor, 2-Leads, Body 7,3x7,3mm)
pins: 1, 2

## WE-PD 7345, M, 744777218
designator L?, comment 180 µH
SMD-Shielded Power Inductor WE-PD, L=180 µH; partNo: 744777218; Manufacturer: Würth Elektronik eiSos GmbH; Inductance: 180 µH; ComponentLink1Description: Manufacturer; ComponentLink1URL: http://www.we-online.de; Created by: Christin Zierenner; Created Date: July 2009; ComponentLink2Description: Datasheet; ComponentLink2URL: http://www.we-online.de/katalog/media/pdf/744777218.pdf
footprint WE-PD 7345 (SMD Inductor, 2-Leads, Body 7,3x7,3mm)
pins: 1, 2

## WE-PD 7345, M, 744777222
designator L?, comment 220 µH
SMD-Shielded Power Inductor WE-PD, L=220 µH; partNo: 744777222; Manufacturer: Würth Elektronik eiSos GmbH; Inductance: 220 µH; ComponentLink1Description: Manufacturer; ComponentLink1URL: http://www.we-online.de; Created by: Christin Zierenner; Created Date: July 2009; ComponentLink2Description: Datasheet; ComponentLink2URL: http://www.we-online.de/katalog/media/pdf/744777222.pdf
footprint WE-PD 7345 (SMD Inductor, 2-Leads, Body 7,3x7,3mm)
pins: 1, 2

## WE-PD 7345, M, 744777233
designator L?, comment 330 µH
SMD-Shielded Power Inductor WE-PD, L=330 µH; partNo: 744777233; Manufacturer: Würth Elektronik eiSos GmbH; Inductance: 330 µH; ComponentLink1Description: Manufacturer; ComponentLink1URL: http://www.we-online.de; Created by: Christin Zierenner; Created Date: July 2009; ComponentLink2Description: Datasheet; ComponentLink2URL: http://www.we-online.de/katalog/media/pdf/744777233.pdf
footprint WE-PD 7345 (SMD Inductor, 2-Leads, Body 7,3x7,3mm)
pins: 1, 2

## WE-PD 7345, M, 744777239
designator L?, comment 390 µH
SMD-Shielded Power Inductor WE-PD, L=390 µH; partNo: 744777239; Manufacturer: Würth Elektronik eiSos GmbH; Inductance: 390 µH; ComponentLink1Description: Manufacturer; ComponentLink1URL: http://www.we-online.de; Created by: Christin Zierenner; Created Date: July 2009; ComponentLink2Description: Datasheet; ComponentLink2URL: http://www.we-online.de/katalog/media/pdf/744777239.pdf
footprint WE-PD 7345 (SMD Inductor, 2-Leads, Body 7,3x7,3mm)
pins: 1, 2

## WE-PD 7345, M, 744777270
designator L?, comment 270 µH
SMD-Shielded Power Inductor WE-PD, L=270 µH; partNo: 744777270; Manufacturer: Würth Elektronik eiSos GmbH; Inductance: 270 µH; ComponentLink1Description: Manufacturer; ComponentLink1URL: http://www.we-online.de; Created by: Christin Zierenner; Created Date: July 2009; ComponentLink2Description: Datasheet; ComponentLink2URL: http://www.we-online.de/katalog/media/pdf/744777270.pdf
footprint WE-PD 7345 (SMD Inductor, 2-Leads, Body 7,3x7,3mm)
pins: 1, 2